# EAGLE library part TS3USB221E (library pimoroni)
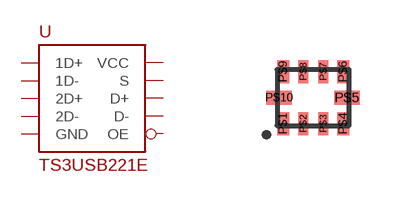
[diagram p13: symbol with the pads of UQFN10; footprint UQFN10]

Designator prefix -

## TS3USB221E  [UQFN10]
P$1  1D+
P$2  1D-
P$3  2D+
P$4  2D-
P$5  GND
P$6  OE
P$7  D-
P$8  D+
P$9  S
P$10  VCC

## Footprint UQFN10 (pad centres in mm)
smd 0.3 x 0.58: P$1 0.15,0.05; P$4 1.65,0.05; P$6 1.65,1.35; P$9 0.15,1.35
smd 0.25 x 0.58: P$2 0.65,0.05; P$3 1.15,0.05; P$7 1.15,1.35; P$8 0.65,1.35
smd 0.63 x 0.35: P$5 1.75,0.7; P$10 0.05,0.7